# Altium schematic symbol library MCP3562R-E_ST.Schlib: 1 symbol
Pins are listed as number, name and electrical type; pins without a type are passive.

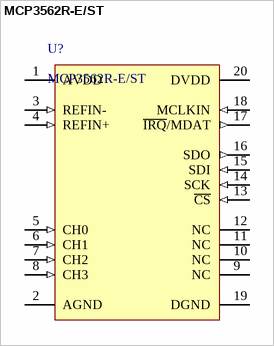
[diagram p0: symbol MCP3562R-E/ST]

## MCP3562R-E/ST
designator U?
24 Bit Analog to Digital Converter 2, 4 Input 2 Sigma-Delta 20-TSSOP
pins: 1 AVDD (power), 2 AGND (power), 3 REFIN- (in), 4 REFIN+ (in), 5 CH0 (in), 6 CH1 (in), 7 CH2 (in), 8 CH3 (in), 9 NC, 10 NC, 11 NC, 12 NC, 13 ~{CS} (in), 14 SCK (in), 15 SDI (in), 16 SDO (out), 17 ~{IRQ}/MDAT (out), 18 MCLKIN (in), 19 DGND (power), 20 DVDD (power)